# Altium schematic symbol library BB9017A.SchLib: 1 symbol
Pins are listed as number, name and electrical type; pins without a type are passive.

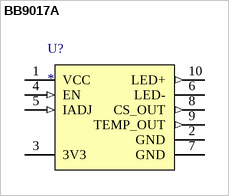
[diagram p0: symbol BB9017A]

## BB9017A
designator U?
pins: 1 VCC (power), 2 GND (power), 3 3V3 (power), 4 EN (in), 5 IADJ (in), 6 LED-, 7 GND (power), 8 CS_OUT (out), 9 TEMP_OUT (out), 10 LED+ (out)